# EAGLE library part LTC4416EMS#PBF (library IGVC-Discrete)
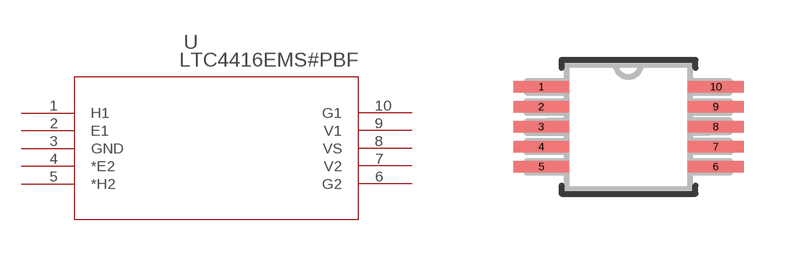
[diagram p1: symbol with the pads of MSOP-10_MS; footprint MSOP-10_MS]

Designator prefix U

## LTC4416EMS#PBF (DESCRIPTION: LTC4416/LTC4416-1 - 36V, Low Loss Dual PowerPath Controllers for Large PFETs; DIGI-KEY_PART_NUMBER: LTC4416EMS#PBF-ND; DIGI-KEY_PURCHASE_URL: https://www.digikey.com/product-detail/en/linear-technology-analog-devices/LTC4416EMS-PBF/LTC4416EMS-PBF-ND/1620181?utm_source=snapeda&utm_medium=aggregator&utm_campaign=symbol; MF: Linear Technology; MP: LTC4416EMS#PBF; PACKAGE: MSOP-10 Linear Technology)  [MSOP-10_MS]
1  H1  out
2  E1  in
3  GND  pwr
4  *E2  in
5  *H2  in
6  G2  pas
7  V2  in
8  VS  in
9  V1  in
10  G1  pas

## Footprint MSOP-10_MS (pad centres in mm)
smd 1.397 x 0.279: 1 -2.184,1.001; 2 -2.184,0.5; 3 -2.184,0; 4 -2.184,-0.5; 5 -2.184,-1.001; 6 2.184,-1.001; 7 2.184,-0.5; 8 2.184,0; 9 2.184,0.5; 10 2.184,1.001